# Altium footprint library LED-XTAL.PCBLIB: 105 footprints (part 2 of 7)
Each footprint in its own frame and in the unit in brackets; x right, y up, seen from the top. Pads: shape width x height; smd on the part's side, far side on the other; paste and mask are expansions set on the pad; w line width, h text height; cw(c..) or ccw(c..) is an arc to the next point about the centre after c.
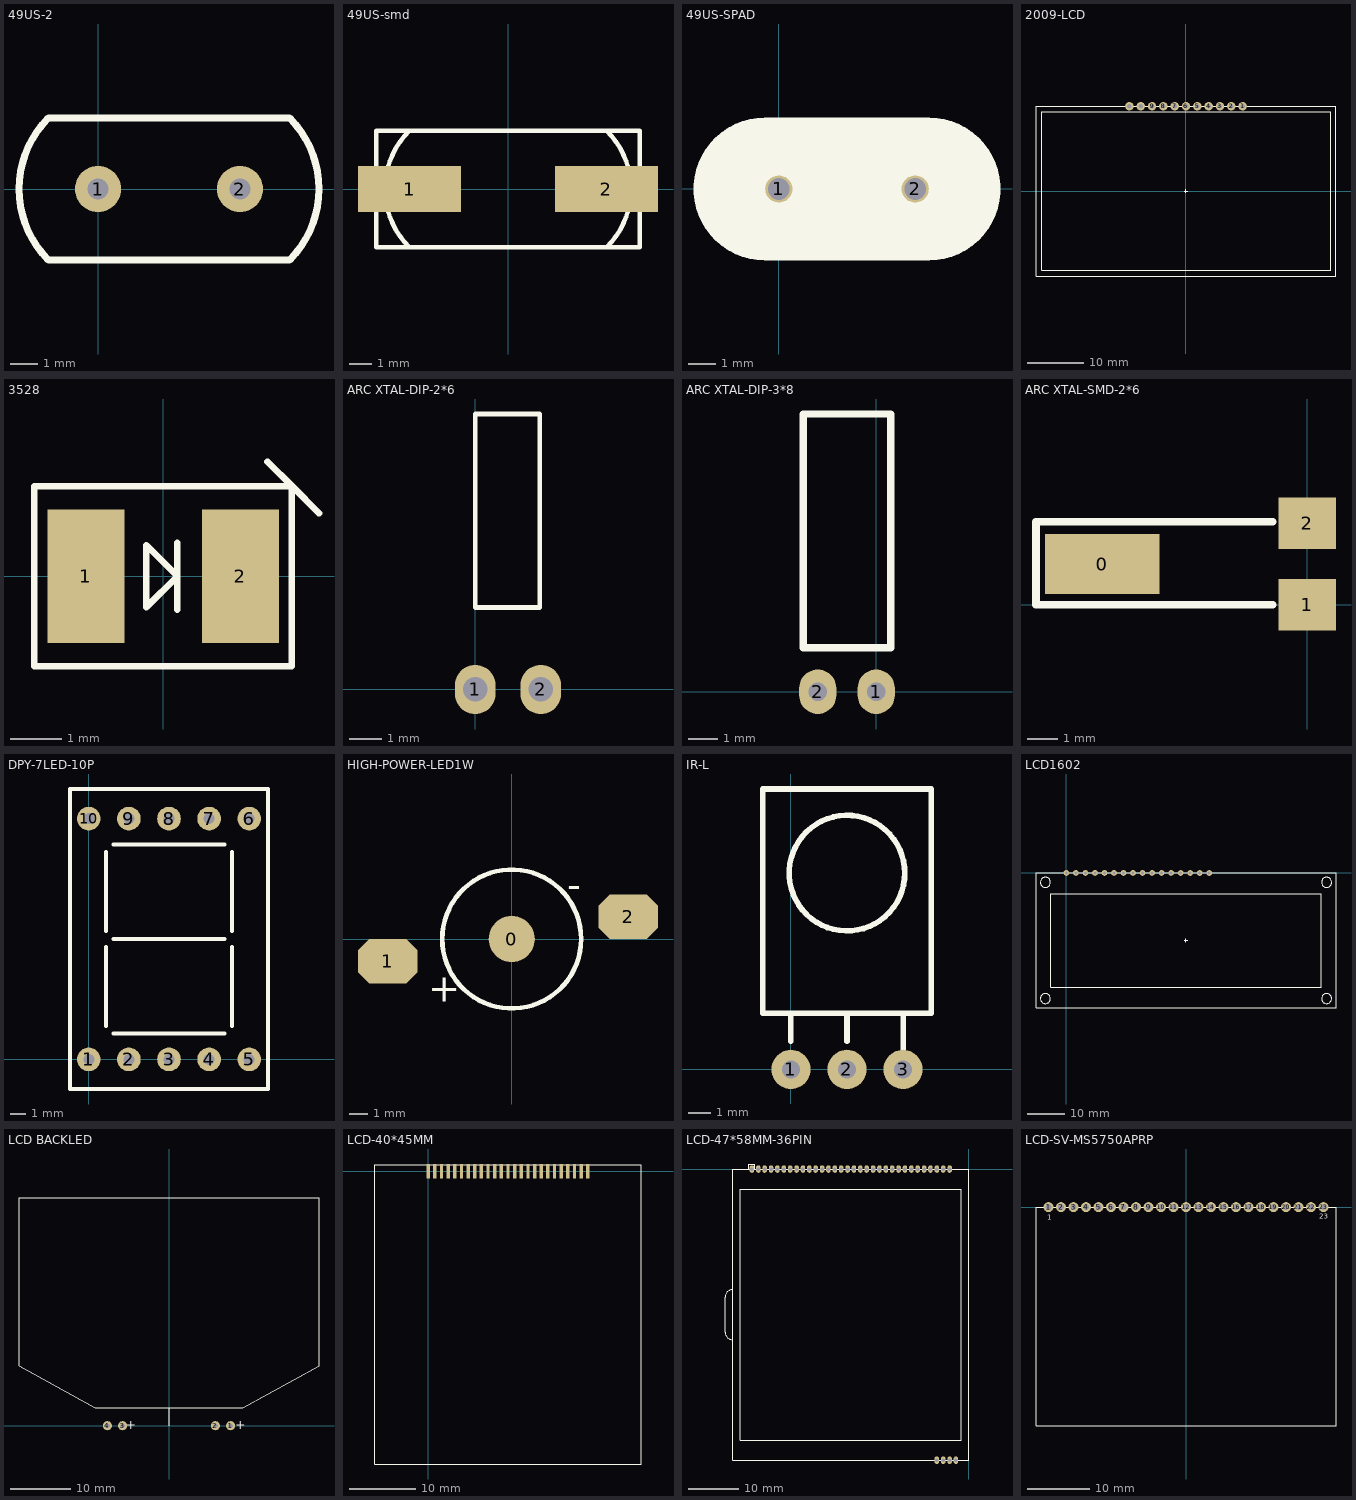
[diagram p1: the footprints below, top view; thin cyan lines are the x and y axes]

## 49US-2 [mil]
pads (2):
  round 65 hole 30: 1(0,0) 2(200,0)
TopOverlay:
  lines w10: -70,-100 cw(c30,0) -70,100 270,100 cw(c170,0) 270,-100 -70,-100

## 49US-smd [mm]
pads (2):
  rect 4.5x2 smd: 1(-4.3,0) 2(4.3,0)
TopOverlay:
  lines w0.2: -4.318,-2.54 cw(c-1.778,0) -4.318,2.54 ; 4.318,-2.54 ccw(c1.778,0) 4.318,2.54 ; -5.75,-2.54 -5.75,2.54 5.75,2.54 5.75,-2.54 -5.75,-2.54

## 49US-SPAD [mm]
pads (2):
  round 1 / inner round 1 / far side round 1.8 hole 0.8: 1(0,0) 2(5,0)
TopOverlay:
  circle w2: c5.471,0 r1.529
  circle w2: c-0.546,0.018 r1.524
  rectangle: -1.1,-2.5 6.1,2.5
  lines w0.254: 2.17,-1.092 2.779,-1.092 ; -0.5,-2.5 cw(c-0.5,0) -0.5,2.5 5.5,2.5 cw(c5.5,0) 5.5,-2.5 -0.5,-2.5

## 2009-LCD [mm]
pads (11):
  round 1.5 hole 0.8: 1(10,15) 2(8,15) 3(6,15) 4(4,15) 5(2,15) 6(0,15) 7(-2,15) 8(-4,15) 9(-6,15) 10(-8,15) 11(-10,15)
TopOverlay:
  lines w0.127: -0.3,0 0.3,0 ; 0,-0.3 0,0.3 ; -26.5,-15 -26.5,15 26.5,15 26.5,-15 -26.5,-15 ; -25.5,-14 -25.5,14 25.6,14 25.6,-14 -25.5,-14

## 3528 [mm]
pads (2):
  rect 1.5x2.6 smd: 1(-1.5,0) 2(1.5,0)
TopOverlay:
  lines w0.127: 0.275,-0.65 0.275,0.65 ; 2.025,2.225 2.5,1.75 ; 3.025,1.225 2.5,1.75 ; 2.5,1.75 -2.5,1.75 -2.5,-1.75 2.5,-1.75 2.5,1.75 ; -0.325,-0.6 -0.325,0.6 0.275,0 -0.325,-0.6

## ARC XTAL-DIP-2*6 [mil]
pads (2):
  oval 50x60 hole 30: 1(0,0) 2(80,0)
TopOverlay:
  lines w6: 0,100 0,336.22 78.74,336.22 78.74,100 0,100

## ARC XTAL-DIP-3*8 [mil]
pads (2):
  oval 50x60 hole 25: 1(0,0) 2(-78.74,0)
TopOverlay:
  lines w10: -98.43,59.06 -98.43,374.02 19.68,374.02 19.68,59.06 -98.43,59.06

## ARC XTAL-SMD-2*6 [mm]
pads (3):
  rect 3.8x2 smd: 0(-6.8,1.35)
  rect 1.9x1.7 smd: 1(0,0) 2(0,2.7)
TopOverlay:
  lines w0.254: -9,2.725 -9,0 -1.15,0 ; -9,2.75 -1.15,2.75

## DPY-7LED-10P [mm]
pads (10):
  round 1.5 hole 0.7: 1(0,0) 2(2.54,0) 3(5.08,0) 4(7.62,0) 5(10.16,0) 6(10.16,15.24) 7(7.62,15.24) 8(5.08,15.24) 9(2.54,15.24) 10(0,15.24)
TopOverlay:
  lines w0.254: 1.08,2.12 1.08,7.12 ; 1.08,8.12 1.08,13.12 ; 1.58,1.62 8.58,1.62 ; 1.58,7.62 8.58,7.62 ; 1.58,13.62 8.58,13.62 ; 9.08,2.12 9.08,7.12 ; 9.08,8.12 9.08,13.12 ; -1.19,-1.88 11.35,-1.88 11.35,17.12 -1.19,17.12 -1.19,-1.88

## HIGH-POWER-LED1W [mm]
pads (3):
  round 2.5 smd: 0(0,0)
  oct 3.2x2.4 smd: 1(-6.7,-1.2) 2(6.3,1.2)
TopOverlay:
  circle w0.254: c0,0 r3.75
  text "-" at 3,2.2 h1.52
  text "+" at -4.5,-3.4 h1.52

## IR-L [mil]
pads (3):
  round 70 hole 32: 1(0,0) 2(100,0) 3(200,0)
TopOverlay:
  circle w10: c100,350 r103.08
  lines w9.84: 0,50 0,100 ; 100,50 100,100 ; 200,25 200,100 ; -50,100 250,100 250,500 -50,500 -50,100

## LCD1602 [mil]
pads (16):
  round 60 hole 31.5: 1(0,0) 2(100,0) 3(200,0) 4(300,0) 5(400,0) 6(500,0) 7(600,0) 8(700,0) 9(800,0) 10(900,0) 11(1000,0) 12(1100,0) 13(1200,0) 14(1300,0) 15(1400,0) 16(1500,0)
TopOverlay:
  circle w10: c-220.47,-1318.9 r53.15
  circle w10: c-220.47,-98.43 r53.15
  circle w10: c2732.28,-1318.9 r53.15
  circle w10: c2732.28,-98.43 r53.15
  lines w5: 1236.22,-708.66 1275.59,-708.66 ; 1255.91,-728.35 1255.91,-688.98 ; -165.35,-1200.79 -165.35,-216.54 2677.17,-216.54 2677.17,-1200.79 -165.35,-1200.79
  lines w7.87: -318.9,-1417.32 -318.9,0 2830.71,0 2830.71,-1417.32 -318.9,-1417.32

## LCD BACKLED [mm]
pads (4):
  round 1.524 hole 0.8: 1(10.27,0) 2(7.73,0) 3(-7.73,0) 4(-10.27,0)
TopOverlay:
  lines w0.127: 0,0 0,3 ; -25,10 -25,38 25,38 25,10 12.25,3 -12.25,3 -25,10
  text "+" at 12.77,0.75 h1.52
  text "+" at -5.48,0.75 h1.52

## LCD-40*45MM [mm]
pads (25):
  rect 0.5x2.2 smd: 1(0,0) 2(1,0) 3(2,0) 4(3,0) 5(4,0) 6(5,0) 7(6,0) 8(7,0) 9(8,0) 10(9,0) 11(10,0) 12(11,0) 13(12,0) 14(13,0) 15(14,0) 16(15,0) 17(16,0) 18(17,0) 19(18,0) 20(19,0) 21(20,0) 22(21,0) 23(22,0) 24(23,0) 25(24,0)
TopOverlay:
  lines w0.127: -8,-44 32,-44 32,1 -8,1 -8,-44

## LCD-47*58MM-36PIN [mm]
pads (36):
  oval 0.9x1.5 hole 0.7: 1(-43.185,0) 2(-41.915,0) 3(-40.645,0) 4(-39.375,0) 5(-38.105,0) 6(-36.835,0) 7(-35.565,0) 8(-34.295,0) 9(-33.025,0) 10(-31.755,0) 11(-30.485,0) 12(-29.215,0) 13(-27.945,0) 14(-26.675,0) 15(-25.405,0) 16(-24.135,0) 17(-22.865,0) 18(-21.595,0) 19(-20.325,0) 20(-19.055,0) 21(-17.785,0) 22(-16.515,0) 23(-15.245,0) 24(-13.975,0) 25(-12.705,0) 26(-11.435,0) 27(-10.165,0) 28(-8.895,0) 29(-7.625,0) 30(-6.355,0) 31(-5.085,0) 32(-3.815,0) 33(-2.545,-58) 34(-3.815,-58) 35(-5.085,-58) 36(-6.355,-58)
TopOverlay:
  lines w0.127: -45.5,-54 -1.5,-54 -1.5,-4 -45.5,-4 -45.5,-54
  lines w0.2: -47,-34 cw(c-47,-32.5) -48.5,-32.5 -48.5,-25.5 cw(c-47,-25.5) -47,-24 ; -43.8,0 -43.8,1 -42.6,1 -42.6,0 ; -47,-58 0,-58 0,0 -47,0 -47,-58

## LCD-SV-MS5750APRP [mm]
pads (23):
  round 1.6 hole 1: 1(-22,0) 2(-20,0) 3(-18,0) 4(-16,0) 5(-14,0) 6(-12,0) 7(-10,0) 8(-8,0) 9(-6,0) 10(-4,0) 11(-2,0) 12(0,0) 13(2,0) 14(4,0) 15(6,0) 16(8,0) 17(10,0) 18(12,0) 19(14,0) 20(16,0) 21(18,0) 22(20,0) 23(22,0)
TopOverlay:
  lines w0.127: -24,-35 24,-35 24,0 -24,0 -24,-35
  text "1" at -22.2,-2 h0.81
  text "23" at 21.3,-1.9 h0.8